# EAGLE library part 2516-6002-* (library 3M)
16-Pin Shrouded Header 2500 Series 16-Pin Four-Wall Header .100" x .100" Spacing Low Profile Straight Through-Hole For .062" thick board Vertical UG = 15µ [0.38µm] Gold with 200µ [5.08µm] 60:40 Tin-Lead Solder Tails (RIA E3 & C2 apply) UB = 30µ [0.76µm] Gold with 200µ [5.05µm] 60:40 Tin-Lead Solder Tails (RIA E3 & C2 apply) RB = 30µ [0.76µm] Gold with 200µ [5.08µm] Matte Tin Solder Tails (RIA E1 & C1 apply) From 3M document TS-0770-E, dated March 24, 2008 http://www.3m.com/interconnects/
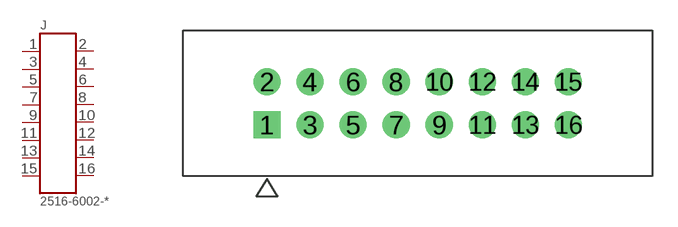
[diagram p2: symbol with the pads of 16POS; footprint 16POS]

Designator prefix J

## 2516-6002-UG  [16POS]
1  1  pas
2  2  pas
3  3  pas
4  4  pas
5  5  pas
6  6  pas
7  7  pas
8  8  pas
9  9  pas
10  10  pas
11  11  pas
12  12  pas
13  13  pas
14  14  pas
15  15  pas
16  16  pas

## 2516-6002-UB  [16POS]
Pads as for 16POS

## 2516-6002-RB  [16POS]
Pads as for 16POS

## Footprint 16POS (pad centres in mm)
drill 1.067 square: 1 -8.89,-1.27
drill 1.067 round: 2 -8.89,1.27; 3 -6.35,-1.27; 4 -6.35,1.27; 5 -3.81,-1.27; 6 -3.81,1.27; 7 -1.27,-1.27; 8 -1.27,1.27; 9 1.27,-1.27; 10 1.27,1.27; 11 3.81,-1.27; 12 3.81,1.27; 13 6.35,-1.27; 14 6.35,1.27; 15 8.89,1.27; 16 8.89,-1.27